# Altium footprint library Analog_project.PcbLib: 17 footprints (part 1 of 2)
Each footprint in its own frame and in the unit in brackets; x right, y up, seen from the top. Pads: shape width x height; smd on the part's side, far side on the other; paste and mask are expansions set on the pad; w line width, h text height; cw(c..) or ccw(c..) is an arc to the next point about the centre after c.
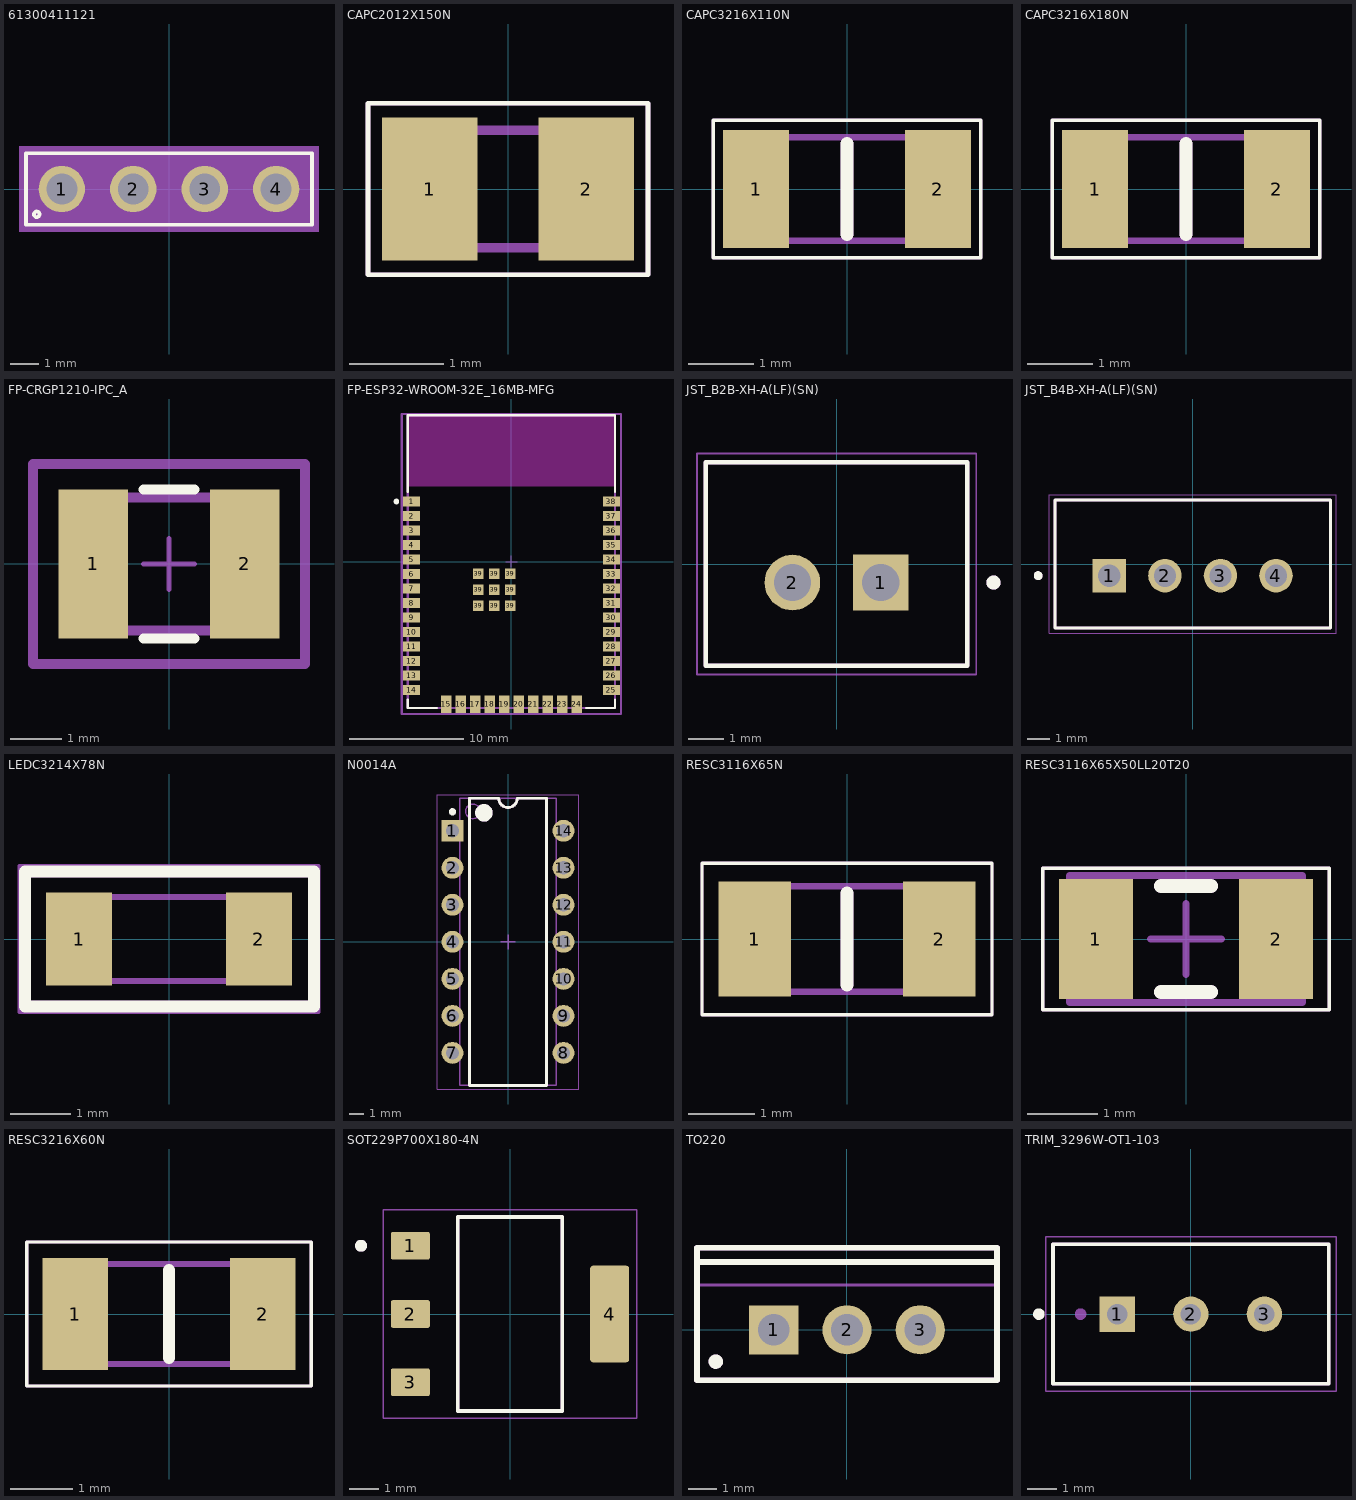
[diagram p0: the footprints below, top view; thin cyan lines are the x and y axes]

## 61300411121 [mm]
pads (4):
  round 1.65 hole 1.1: 1(-3.81,0) 2(-1.27,0) 3(1.27,0) 4(3.81,0)
Top Overlay:
  circle w0.127: c-4.7,-0.9 r0.1
  lines w0.127: -5.08,-1.27 -5.08,1.27 5.08,1.27 5.08,-1.27 -5.08,-1.27
Top Assembly:
  circle w0.127: c-4.7,-0.9 r0.1
  lines w0.127: -5.08,-1.27 -5.08,1.27 5.08,1.27 5.08,-1.27 -5.08,-1.27
  text ".Designator" at -4.998,-0.333 h1
Top Courtyard:
  region: 5.33,-1.52 -5.33,-1.52 -5.33,1.52 5.33,1.52

## CAPC2012X150N [mm]
pads (2):
  rect 1.01x1.52 smd: 1(-0.83,0) 2(0.83,0)
Top Overlay:
  lines w0.05: -1.485,-0.91 1.485,-0.91 1.485,0.91 -1.485,0.91 -1.485,-0.91
Top Assembly:
  lines w0.05: -1.485,-0.91 1.485,-0.91 1.485,0.91 -1.485,0.91 -1.485,-0.91
  text ".Designator" at -4.998,-0.333 h1
Top Courtyard:
  lines w0.1: -1,-0.625 1,-0.625 1,0.625 -1,0.625 -1,-0.625
Bottom Assembly:
  lines w0.05: -1.485,-0.91 1.485,-0.91 1.485,0.91 -1.485,0.91 -1.485,-0.91
3D body "CL31B226KPKVPJE.stp": height 1.5, standoff 0, extent -1,-0.625 1,0.625

## CAPC3216X110N [mm]
pads (2):
  rect 1.02x1.82 smd: 1(-1.4,0) 2(1.4,0)
Top Overlay:
  lines w0.05: -2.06,-1.06 -2.06,1.06 2.06,1.06 2.06,-1.06 -2.06,-1.06
  lines w0.2: 0,-0.7 0,0.7
Top Assembly:
  lines w0.05: -2.06,-1.06 -2.06,1.06 2.06,1.06 2.06,-1.06 -2.06,-1.06
  lines w0.2: 0,-0.7 0,0.7
  text ".Designator" at -4.998,-0.333 h1
Top Courtyard:
  lines w0.1: -1.6,-0.8 -1.6,0.8 1.6,0.8 1.6,-0.8 -1.6,-0.8
Bottom Assembly:
  lines w0.05: -2.06,-1.06 -2.06,1.06 2.06,1.06 2.06,-1.06 -2.06,-1.06
3D body "C1206C106K8RAC.stp": height 0, standoff -1.8, extent -1.7,-0.889 1.7,0.911

## CAPC3216X180N [mm]
pads (2):
  rect 1.02x1.82 smd: 1(-1.4,0) 2(1.4,0)
Top Overlay:
  lines w0.05: -2.06,-1.06 -2.06,1.06 2.06,1.06 2.06,-1.06 -2.06,-1.06
  lines w0.2: 0,-0.7 0,0.7
Top Assembly:
  lines w0.05: -2.06,-1.06 -2.06,1.06 2.06,1.06 2.06,-1.06 -2.06,-1.06
  lines w0.2: 0,-0.7 0,0.7
  text ".Designator" at -4.998,-0.333 h1
Top Courtyard:
  lines w0.1: -1.6,-0.8 -1.6,0.8 1.6,0.8 1.6,-0.8 -1.6,-0.8
Bottom Assembly:
  lines w0.05: -2.06,-1.06 -2.06,1.06 2.06,1.06 2.06,-1.06 -2.06,-1.06
3D body "C1206C104K5RAC7867.stp": height 0, standoff -1.8, extent -1.651,-0.44 1.749,0.44

## FP-CRGP1210-IPC_A [mm]
pads (2):
  rect 1.358x2.906 smd paste+0 mask+0: 1(-1.477,0) 2(1.477,0)
Top Overlay:
  lines w0.2: -0.498,-1.453 0.498,-1.453 ; -0.498,1.453 0.498,1.453
Top Assembly:
  lines w0.2: -2.656,-1.953 2.656,-1.953 2.656,1.953 -2.656,1.953 -2.656,-1.953
  text ".Designator" at -2.252,-0.226 h1
Top 3D Body:
  lines w0.2: -1.55,-1.3 1.55,-1.3 1.55,1.3 -1.55,1.3 -1.55,-1.3
Top Courtyard:
  lines w0.2: -2.656,-1.953 2.656,-1.953 2.656,1.953 -2.656,1.953 -2.656,-1.953
Top Component Center:
  lines w0.1: -0.5,0 0.5,0 ; 0,-0.5 0,0.5
3D body "Res_TE_CRGP1210F2K2_eec.STEP": height 0.25, standoff 0, extent -2.656,-1.953 2.656,1.953

## FP-ESP32-WROOM-32E_16MB-MFG [mm]
pads (47):
  rect 1.5x0.9 smd paste+0 mask+0: 1(-8.75,5.26) 2(-8.75,3.99) 3(-8.75,2.72) 4(-8.75,1.45) 5(-8.75,0.18) 6(-8.75,-1.09) 7(-8.75,-2.36) 8(-8.75,-3.63) 9(-8.75,-4.9) 10(-8.75,-6.17) 11(-8.75,-7.44) 12(-8.75,-8.71) 13(-8.75,-9.98) 14(-8.75,-11.25) 25(8.75,-11.25) 26(8.75,-9.98) 27(8.75,-8.71) 28(8.75,-7.44) 29(8.75,-6.17) 30(8.75,-4.9) 31(8.75,-3.63) 32(8.75,-2.36) 33(8.75,-1.09) 34(8.75,0.18) 35(8.75,1.45) 36(8.75,2.72) 37(8.75,3.99) 38(8.75,5.26)
  rect 0.9x1.5 smd paste+0 mask+0: 15(-5.715,-12.5) 16(-4.445,-12.5) 17(-3.175,-12.5) 18(-1.905,-12.5) 19(-0.635,-12.5) 20(0.635,-12.5) 21(1.905,-12.5) 22(3.175,-12.5) 23(4.445,-12.5) 24(5.715,-12.5)
  rect 0.9x0.9 smd paste+0 mask+0: 39(-2.9,-3.86) 39(-2.9,-2.46) 39(-2.9,-1.06) 39(-1.5,-3.86) 39(-1.5,-2.46) 39(-1.5,-1.06) 39(-0.1,-3.86) 39(-0.1,-2.46) 39(-0.1,-1.06)
Top Overlay:
  circle w0.25: c-10.075,5.26 r0.125
  lines w0.2: -9.075,-12.075 -9.075,-12.825 -6.54,-12.825 ; -9.075,6.085 -9.075,12.825 9.075,12.825 9.075,6.085 ; 6.54,-12.825 9.075,-12.825 9.075,-12.075
Keep-Out Layer:
  rectangle: -9,6.56 9,12.75
Top Assembly:
  lines w0.2: -9.6,-13.35 -9.6,12.925 9.6,12.925 9.6,-13.35 -9.6,-13.35
  text ".Designator" at 0,-0.025 h1
Top 3D Body:
  lines w0.2: -9.075,-12.825 -9.075,12.825 9.075,12.825 9.075,-12.825 -9.075,-12.825
Top Courtyard:
  lines w0.2: -9.6,-13.35 -9.6,12.925 9.6,12.925 9.6,-13.35 -9.6,-13.35
Top Component Center:
  lines w0.1: -0.5,0 0.5,0 ; 0,-0.5 0,0.5
3D body "UNK_Espressif_Systems_ESP32-WROOM-32E_16MB_eec.STEP": height 0.25, standoff 0, extent -9.6,-13.35 9.6,12.925

## JST_B2B-XH-A(LF)(SN) [mm]
height 7
pads (2):
  rect 1.575x1.575 / inner round 1.575 / far side rect 1.575x1.575 hole 1.05: 1(1.25,-0.525)
  round 1.575 hole 1.05: 2(-1.25,-0.525)
Top Overlay:
  circle w0.2: c4.44,-0.525 r0.1
  lines w0.127: -3.7,-2.875 -3.7,2.875 3.7,2.875 3.7,-2.875 -3.7,-2.875
Top Assembly:
  lines w0.127: -3.7,-2.875 -3.7,2.875 3.7,2.875 3.7,-2.875 -3.7,-2.875
  text ".Designator" at -4.998,1.191 h1
Top 3D Body:
  circle w0.2: c4.44,-0.525 r0.1
  lines w0.127: -3.7,-2.875 -3.7,2.875 3.7,2.875 3.7,-2.875 -3.7,-2.875
Top Courtyard:
  lines w0.05: -3.95,-3.125 3.95,-3.125 3.95,3.125 -3.95,3.125 -3.95,-3.125
3D body "step_temp.STEP": height 7, standoff -3.4, extent -3.7,-2.875 3.7,2.875

## JST_B4B-XH-A(LF)(SN) [mm]
height 7
pads (4):
  rect 1.508x1.508 / inner round 1.508 / far side rect 1.508x1.508 hole 1: 1(-3.75,-0.525)
  round 1.508 hole 1: 2(-1.25,-0.525) 3(1.25,-0.525) 4(3.75,-0.525)
Top Overlay:
  circle w0.2: c-6.95,-0.525 r0.1
  lines w0.127: -6.2,-2.875 6.2,-2.875 6.2,2.875 -6.2,2.875 -6.2,-2.875
Top Assembly:
  lines w0.127: -6.2,-2.875 6.2,-2.875 6.2,2.875 -6.2,2.875 -6.2,-2.875
  text ".Designator" at -5.125,1.191 h1
Top 3D Body:
  circle w0.2: c-6.95,-0.525 r0.1
  lines w0.127: -6.2,-2.875 6.2,-2.875 6.2,2.875 -6.2,2.875 -6.2,-2.875
Top Courtyard:
  lines w0.05: -6.45,-3.125 -6.45,3.125 6.45,3.125 6.45,-3.125 -6.45,-3.125
3D body "step_temp.STEP": height 7, standoff -3.4, extent -6.2,-2.875 6.2,2.875

## LEDC3214X78N [mm]
pads (2):
  rect 1.1x1.55 smd: 1(-1.5,0) 2(1.5,0)
Top Overlay:
  lines w0.2: -2.4,-1.125 2.413,-1.125 2.413,1.125 -2.4,1.125 -2.4,-1.125
Top Assembly:
  lines w0.2: -2.4,-1.125 2.413,-1.125 2.413,1.125 -2.4,1.125 -2.4,-1.125
  text ".Designator" at -4.998,-0.333 h1
Top Courtyard:
  lines w0.1: -1.6,0.233 -1.133,0.7 ; -1.6,-0.7 -1.6,0.7 1.6,0.7 1.6,-0.7 -1.6,-0.7
Bottom Assembly:
  lines w0.05: -2.5,-1.225 -2.5,1.225 2.5,1.225 2.5,-1.225 -2.5,-1.225
3D body "150120GS75000.stp": height 0.68, standoff 0, extent -1.6,-0.8 1.6,0.8

## N0014A [mm] "DIP, 14-Leads, Body 19.7x6.6mm, Pitch 2.54mm"
height 5.08
pads (14):
  rect 1.5x1.5 hole 0.9: 1(-3.81,7.62)
  round 1.5 hole 0.9: 2(-3.81,5.08) 3(-3.81,2.54) 4(-3.81,0) 5(-3.81,-2.54) 6(-3.81,-5.08) 7(-3.81,-7.62) 8(3.81,-7.62) 9(3.81,-5.08) 10(3.81,-2.54) 11(3.81,0) 12(3.81,2.54) 13(3.81,5.08) 14(3.81,7.62)
Top Overlay:
  circle w0.25: c-3.81,8.92 r0.125
  circle w0.6: c-1.65,8.85 r0.3
  lines w0.2: -2.65,-9.85 -2.65,9.85 -0.635,9.85 ccw(c0,9.85) 0.635,9.85 2.65,9.85 2.65,-9.85 -2.65,-9.85
Top Assembly:
  circle w0.6: c-1.65,8.85 r0.3
  lines w0.2: -2.65,-9.85 -2.65,9.85 -0.635,9.85 ccw(c0,9.85) 0.635,9.85 2.65,9.85 2.65,-9.85 -2.65,-9.85
  text ".Designator" at -4.998,-0.333 h1
Top 3D Body:
  circle w0.1: c-2.4,8.95 r0.5
  lines w0.1: -3.3,-9.85 -3.3,9.85 3.3,9.85 3.3,-9.85 -3.3,-9.85
Top Courtyard:
  lines w0.05: -4.85,-10.1 -4.85,10.1 4.85,10.1 4.85,-10.1 -4.85,-10.1
  lines w0.1: -0.5,0 0.5,0 ; 0,-0.5 0,0.5
3D body: height 2.66, standoff 0, extent -3.945,7.12 -3.675,8.12
3D body: height 2.93, standoff 2.66, extent -3.945,7.12 -3.3,8.12
3D body: height 0, standoff -1.6, extent -3.945,7.26 -3.675,7.98
3D body: height 2.66, standoff 0, extent -3.945,4.58 -3.675,5.58
3D body: height 2.93, standoff 2.66, extent -3.945,4.58 -3.3,5.58
3D body: height 0, standoff -1.6, extent -3.945,4.72 -3.675,5.44
3D body: height 2.66, standoff 0, extent -3.945,2.04 -3.675,3.04
3D body: height 2.93, standoff 2.66, extent -3.945,2.04 -3.3,3.04
3D body: height 0, standoff -1.6, extent -3.945,2.18 -3.675,2.9
3D body: height 2.66, standoff 0, extent -3.945,-0.5 -3.675,0.5
3D body: height 2.93, standoff 2.66, extent -3.945,-0.5 -3.3,0.5
3D body: height 0, standoff -1.6, extent -3.945,-0.36 -3.675,0.36
3D body: height 2.66, standoff 0, extent -3.945,-3.04 -3.675,-2.04
3D body: height 2.93, standoff 2.66, extent -3.945,-3.04 -3.3,-2.04
3D body: height 0, standoff -1.6, extent -3.945,-2.9 -3.675,-2.18
3D body: height 2.66, standoff 0, extent -3.945,-5.58 -3.675,-4.58
3D body: height 2.93, standoff 2.66, extent -3.945,-5.58 -3.3,-4.58
3D body: height 0, standoff -1.6, extent -3.945,-5.44 -3.675,-4.72
3D body: height 2.66, standoff 0, extent -3.945,-8.12 -3.675,-7.12
3D body: height 2.93, standoff 2.66, extent -3.945,-8.12 -3.3,-7.12
3D body: height 0, standoff -1.6, extent -3.945,-7.98 -3.675,-7.26
3D body: height 2.66, standoff 0, extent 3.675,-8.12 3.945,-7.12
3D body: height 2.93, standoff 2.66, extent 3.3,-8.12 3.945,-7.12
3D body: height 0, standoff -1.6, extent 3.675,-7.98 3.945,-7.26
3D body: height 2.66, standoff 0, extent 3.675,-5.58 3.945,-4.58
3D body: height 2.93, standoff 2.66, extent 3.3,-5.58 3.945,-4.58
3D body: height 0, standoff -1.6, extent 3.675,-5.44 3.945,-4.72
3D body: height 2.66, standoff 0, extent 3.675,-3.04 3.945,-2.04
3D body: height 2.93, standoff 2.66, extent 3.3,-3.04 3.945,-2.04
3D body: height 0, standoff -1.6, extent 3.675,-2.9 3.945,-2.18
3D body: height 2.66, standoff 0, extent 3.675,-0.5 3.945,0.5
3D body: height 2.93, standoff 2.66, extent 3.3,-0.5 3.945,0.5
3D body: height 0, standoff -1.6, extent 3.675,-0.36 3.945,0.36
3D body: height 2.66, standoff 0, extent 3.675,2.04 3.945,3.04
3D body: height 2.93, standoff 2.66, extent 3.3,2.04 3.945,3.04
3D body: height 0, standoff -1.6, extent 3.675,2.18 3.945,2.9
3D body: height 2.66, standoff 0, extent 3.675,4.58 3.945,5.58
3D body: height 2.93, standoff 2.66, extent 3.3,4.58 3.945,5.58
3D body: height 0, standoff -1.6, extent 3.675,4.72 3.945,5.44
3D body: height 2.66, standoff 0, extent 3.675,7.12 3.945,8.12
3D body: height 2.93, standoff 2.66, extent 3.3,7.12 3.945,8.12
3D body: height 0, standoff -1.6, extent 3.675,7.26 3.945,7.98
3D body: height 5.08, standoff 0.51, extent -3.3,-9.85 3.3,9.85

## RESC3116X65N [mm]
pads (2):
  rect 1.1x1.75 smd: 1(-1.4,0) 2(1.4,0)
Top Overlay:
  lines w0.05: -2.2,-1.15 -2.2,1.15 2.2,1.15 2.2,-1.15 -2.2,-1.15
  lines w0.2: 0,-0.7 0,0.7
Top Assembly:
  lines w0.05: -2.2,-1.15 -2.2,1.15 2.2,1.15 2.2,-1.15 -2.2,-1.15
  lines w0.2: 0,-0.7 0,0.7
  text ".Designator" at -4.998,-0.333 h1
Top Courtyard:
  lines w0.1: -1.55,-0.8 -1.55,0.8 1.55,0.8 1.55,-0.8 -1.55,-0.8
Bottom Assembly:
  lines w0.05: -2.2,-1.15 -2.2,1.15 2.2,1.15 2.2,-1.15 -2.2,-1.15

## RESC3116X65X50LL20T20 [mm] "Chip Resistor, 2-Leads, Body 3.10x1.60mm, IPC High Density"
height 0.65
pads (2):
  rect 1.05x1.7 smd: 1(-1.275,0) 2(1.275,0)
Top Overlay:
  lines w0.05: -2.032,-1 2.032,-1 2.032,1 -2.032,1 -2.032,-1
  lines w0.2: -0.35,-0.75 0.35,-0.75 ; -0.35,0.75 0.35,0.75
Top Assembly:
  lines w0.05: -2.032,-1 2.032,-1 2.032,-0.5 2.032,0.5 2.032,1 -2.032,1 -2.032,-1
  lines w0.2: -0.35,-0.75 0.35,-0.75 ; -0.35,0.75 0.35,0.75
  text ".Designator" at -4.998,-0.333 h1
Top 3D Body:
  lines w0.1: -1.65,-0.9 1.65,-0.9 1.65,0.9 -1.65,0.9 -1.65,-0.9
Top Courtyard:
  lines w0.05: -2.032,-1 2.032,-1 2.032,1 -2.032,1 -2.032,-1
  lines w0.1: -0.5,0 0.5,0 ; 0,-0.5 0,0.5
3D body: height 0.65, standoff 0, extent 1.15,-0.9 1.65,0.9
3D body: height 0.65, standoff 0, extent -1.65,-0.9 -1.15,0.9
3D body: height 0.65, standoff 0, extent -1.15,-0.9 1.15,0.9

## RESC3216X60N [mm]
pads (2):
  rect 1.05x1.8 smd: 1(-1.5,0) 2(1.5,0)
Top Overlay:
  lines w0.05: -2.275,-1.15 2.275,-1.15 2.275,1.15 -2.275,1.15 -2.275,-1.15
  lines w0.2: 0,-0.7 0,0.7
Top Assembly:
  lines w0.05: -2.275,-1.15 2.275,-1.15 2.275,1.15 -2.275,1.15 -2.275,-1.15
  lines w0.2: 0,-0.7 0,0.7
  text ".Designator" at -4.998,-0.333 h1
Top Courtyard:
  lines w0.1: -1.575,-0.8 1.575,-0.8 1.575,0.8 -1.575,0.8 -1.575,-0.8
Bottom Assembly:
  lines w0.05: -2.275,-1.15 2.275,-1.15 2.275,1.15 -2.275,1.15 -2.275,-1.15
3D body "RCC1206220RFKEA.stp": height 0.6, standoff 0, extent -1.575,-0.8 1.575,0.8

## SOT229P700X180-4N [mm]
height 1.8
pads (4):
  rrect15% 1.31x0.93 smd: 1(-3.345,2.29) 2(-3.345,0) 3(-3.345,-2.29)
  rrect15% 1.31x3.24 smd: 4(3.345,0)
Top Overlay:
  circle w0.2: c-5,2.29 r0.1
  lines w0.127: -1.753,-3.253 1.753,-3.253 1.753,3.253 -1.753,3.253 -1.753,-3.253
Top Assembly:
  lines w0.127: -1.753,-3.253 1.753,-3.253 1.753,3.253 -1.753,3.253 -1.753,-3.253
  text ".Designator" at -4.998,-0.333 h1
Top 3D Body:
  circle w0.2: c-5,2.29 r0.1
  lines w0.127: -1.753,-3.253 1.753,-3.253 1.753,3.253 -1.753,3.253 -1.753,-3.253
Top Courtyard:
  lines w0.05: -4.25,-3.502 -4.25,3.502 4.25,3.502 4.25,-3.502 -4.25,-3.502
3D body "step_temp.STEP": height 1.8, standoff 0, extent -3.499,-3.251 3.499,3.251

## TO220 [mm] "TO, Thru-Hole, Vertical, Heatsink Mounted; 3 In-Line Leads; Pitch 2.54 mm"
height 19.7
pads (3):
  rect 1.7x1.7 hole 1.1: 1(-2.54,0)
  round 1.7 hole 1.1: 2(0,0) 3(2.54,0)
Top Overlay:
  circle w0.25: c-4.55,-1.1 r0.125
  lines w0.2: -5.2,2.35 5.2,2.35 ; -5.2,-1.75 -5.2,2.85 5.2,2.85 5.2,-1.75 -5.2,-1.75
Top Assembly:
  circle w0.25: c-4.55,-1.1 r0.125
  lines w0.2: -5.2,2.35 5.2,2.35 ; -5.2,-1.75 -5.2,2.85 5.2,2.85 5.2,-1.75 -5.2,-1.75
  text ".Designator" at -4.998,-0.333 h1
Top 3D Body:
  lines w0.1: -5.2,1.55 5.2,1.55 ; -5.2,-1.75 5.2,-1.75 5.2,2.85 -5.2,2.85 -5.2,-1.75
Top Courtyard:
  lines w0.1: -0.5,0 0.5,0 ; 0,-0.5 0,0.5
3D body: height 19.7, standoff 13.05, extent -5.199,1.551 5.199,2.849
3D body: height 13.05, standoff 3.5, extent -5.25,-1.8 5.25,2.9

## TRIM_3296W-OT1-103 [mm]
pads (3):
  rect 1.218x1.218 / inner round 1.218 / far side rect 1.218x1.218 hole 0.71: 1(-2.54,0)
  round 1.218 hole 0.71: 2(0,0) 3(2.54,0)
Top Overlay:
  circle w0.2: c-5.25,0 r0.1
  lines w0.127: -4.765,-2.41 -4.765,2.42 4.765,2.42 4.765,-2.41 -4.765,-2.41
Top Assembly:
  lines w0.127: -4.765,-2.41 -4.765,2.42 4.765,2.42 4.765,-2.41 -4.765,-2.41
  text ".Designator" at -4.998,-0.333 h1
Top 3D Body:
  circle w0.2: c-3.81,0 r0.1
  lines w0.127: -4.765,-2.41 4.765,-2.41 4.765,2.42 -4.765,2.42 -4.765,-2.41
Top Courtyard:
  lines w0.05: -5.015,-2.66 5.015,-2.66 5.015,2.67 -5.015,2.67 -5.015,-2.66
3D body "step_temp.STEP": height 11.55, standoff -7.72, extent -4.765,-2.41 4.765,2.42